# Altium schematic symbol library components.SchLib: 19 symbols
Pins are listed as number, name and electrical type; pins without a type are passive.

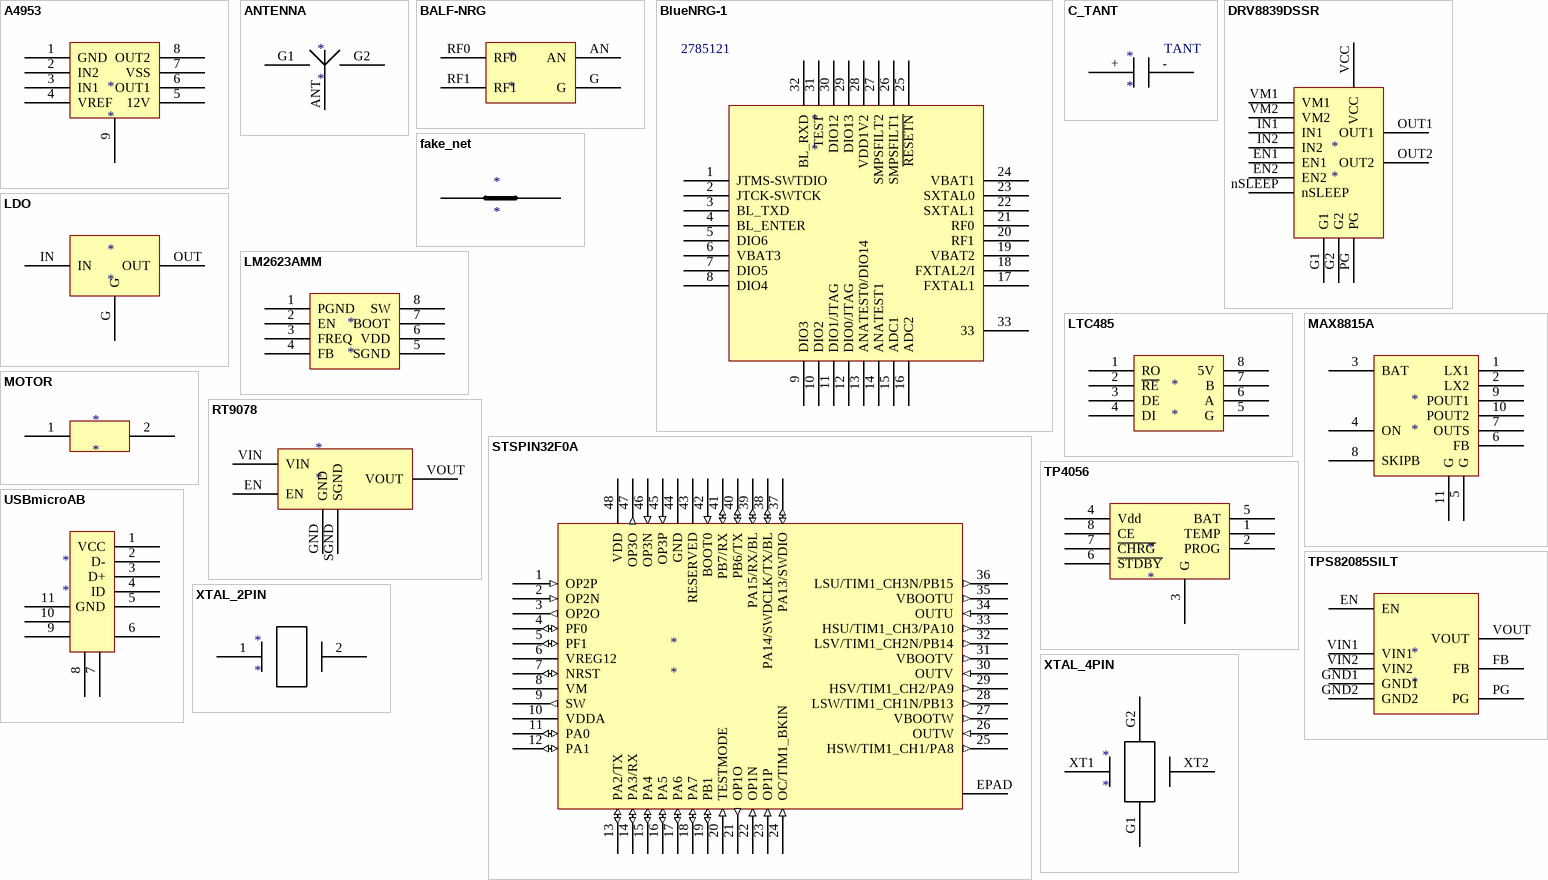
[diagram p0: symbols A4953 to XTAL_4PIN]

## A4953
designator *
footprint MY_SOIC8N_TP (SOIC, 8-Leads, Body 4.90x3.90mm, Pitch 1.27mm, Thermal Pad 3.30x2.41mm, IPC Medium Density)
pins: 1 GND, 2 IN2, 3 IN1, 4 VREF, 5 12V, 6 OUT1, 7 VSS, 8 OUT2, 9 G

## ANTENNA
designator *
footprint Model Name (Footprint not found)
pins: ANT, G1, G2

## BALF-NRG
designator *
footprint BALF-NRG (Footprint not found)
pins: AN, G, RF0, RF1

## BlueNRG-1
designator *  Supplier Part Number 1: 2785121
Supplier 1: Farnell
footprint BlueNRG-1 (Footprint not found)
pins: 1 JTMS-SWTDIO, 2 JTCK-SWTCK, 3 BL_TXD, 4 BL_ENTER, 5 DIO6, 6 VBAT3, 7 DIO5, 8 DIO4, 9 DIO3 "9", 10 DIO2, 11 DIO1/JTAG, 12 DIO0/JTAG, 13 ANATEST0/DIO14, 14 ANATEST1, 15 ADC1, 16 ADC2, 17 FXTAL1, 18 FXTAL2/I, 19 VBAT2, 20 RF1, 21 RF0, 22 SXTAL1, 23 SXTAL0, 24 VBAT1, 25 ~{RESETN}, 26 SMPSFILT1, 27 SMPSFILT2, 28 VDD1V2, 29 DIO13, 30 DIO12, 31 TEST, 32 BL_RXD, 33

## C_TANT
designator *
footprint 100uf_tant
pins: +, -
text: TANT

## DRV8839DSSR
designator *
pins: EN1, EN2, G1, G2, IN1, IN2, nSLEEP, OUT1, OUT2, PG, VCC, VM1, VM2

## fake_net
designator *  (net tie, no BOM)
footprint fake_net (Footprint not found)
pins: 1, 2

## LDO
designator *
footprint L78L (Footprint not found)
pins: G, IN, OUT

## LM2623AMM
designator *
footprint MSOP-8 (Footprint not found)
pins: 1 PGND, 2 EN, 3 FREQ, 4 FB, 5 SGND, 6 VDD, 7 BOOT, 8 SW

## LTC485
designator *
footprint MY_SOIC8N (Footprint not found)
pins: 1 RO, 2 ~{RE}, 3 DE, 4 DI, 5 G, 6 A, 7 B, 8 5V

## MAX8815A
designator *
pins: 1 LX1, 2 LX2, 3 BAT, 4 ON, 5 G, 6 FB, 7 OUTS, 8 SKIPB, 9 POUT1, 10 POUT2, 11 G

## MOTOR
designator *
footprint MOTOR_18mm
pins: 1, 2

## RT9078
designator *
pins: EN, GND, SGND, VIN, VOUT

## STSPIN32F0A
designator *
footprint VFQFPN48 (Footprint not found)
pins: 1 OP2P (in), 2 OP2N (in), 3 OP2O (out), 4 PF0 (io), 5 PF1 (io), 6 VREG12 (power), 7 NRST (io), 8 VM (power), 9 SW (out), 10 VDDA (power), 11 PA0 (io), 12 PA1 (io), 13 PA2/TX (io), 14 PA3/RX (io), 15 PA4 (io), 16 PA5 (io), 17 PA6 (io), 18 PA7 (io), 19 PB1 (io), 20 TESTMODE (in), 21 OP1O (out), 22 OP1N (in), 23 OP1P (in), 24 OC/TIM1_BKIN (in), 25 HSW/TIM1_CH1/PA8 (out), 26 OUTW (in), 27 VBOOTW (out), 28 LSW/TIM1_CH1N/PB13 (out), 29 HSV/TIM1_CH2/PA9 (out), 30 OUTV (in), 31 VBOOTV (out), 32 LSV/TIM1_CH2N/PB14 (out), 33 HSU/TIM1_CH3/PA10 (out), 34 OUTU (in), 35 VBOOTU (out), 36 LSU/TIM1_CH3N/PB15 (out), 37 PA13/SWDIO (io), 38 PA14/SWDCLK/TX/BL (io), 39 PA15/RX/BL (io), 40 PB6/TX (io), 41 PB7/RX (io), 42 BOOT0 (in), 43 RESERVED, 44 GND (power), 45 OP3P (in), 46 OP3N (in), 47 OP3O (out), 48 VDD (power), EPAD (power)

## TP4056
designator *
pins: 1 TEMP, 2 PROG, 3 G, 4 Vdd, 5 BAT, 6 ~{STDBY}, 7 ~{CHRG}, 8 CE

## TPS82085SILT
designator *
pins: EN, FB, GND1, GND2, PG, VIN1, VIN2, VOUT

## USBmicroAB
designator *
pins: 1 VCC, 2 D-, 3 D+, 4 ID, 5 GND, 6, 7, 8, 9, 10, 11

## XTAL_2PIN
designator *
footprint 32K_32_15 (DFN, 2-Leads, Body 1.50x3.20mm, Pitch 2.40mm, IPC Medium Density)
pins: 1, 2

## XTAL_4PIN
designator *
footprint 16MHZ_25_20 (DFN, 4-Leads, Body 2.00x2.50mm, Pitch 1.70mm, IPC Medium Density)
pins: G1, G2, XT1, XT2